# Altium footprint library 数码管.PcbLib: 57 footprints (part 3 of 4)
Each footprint in its own frame and in the unit in brackets; x right, y up, seen from the top. Pads: shape width x height; smd on the part's side, far side on the other; paste and mask are expansions set on the pad; w line width, h text height; cw(c..) or ccw(c..) is an arc to the next point about the centre after c.
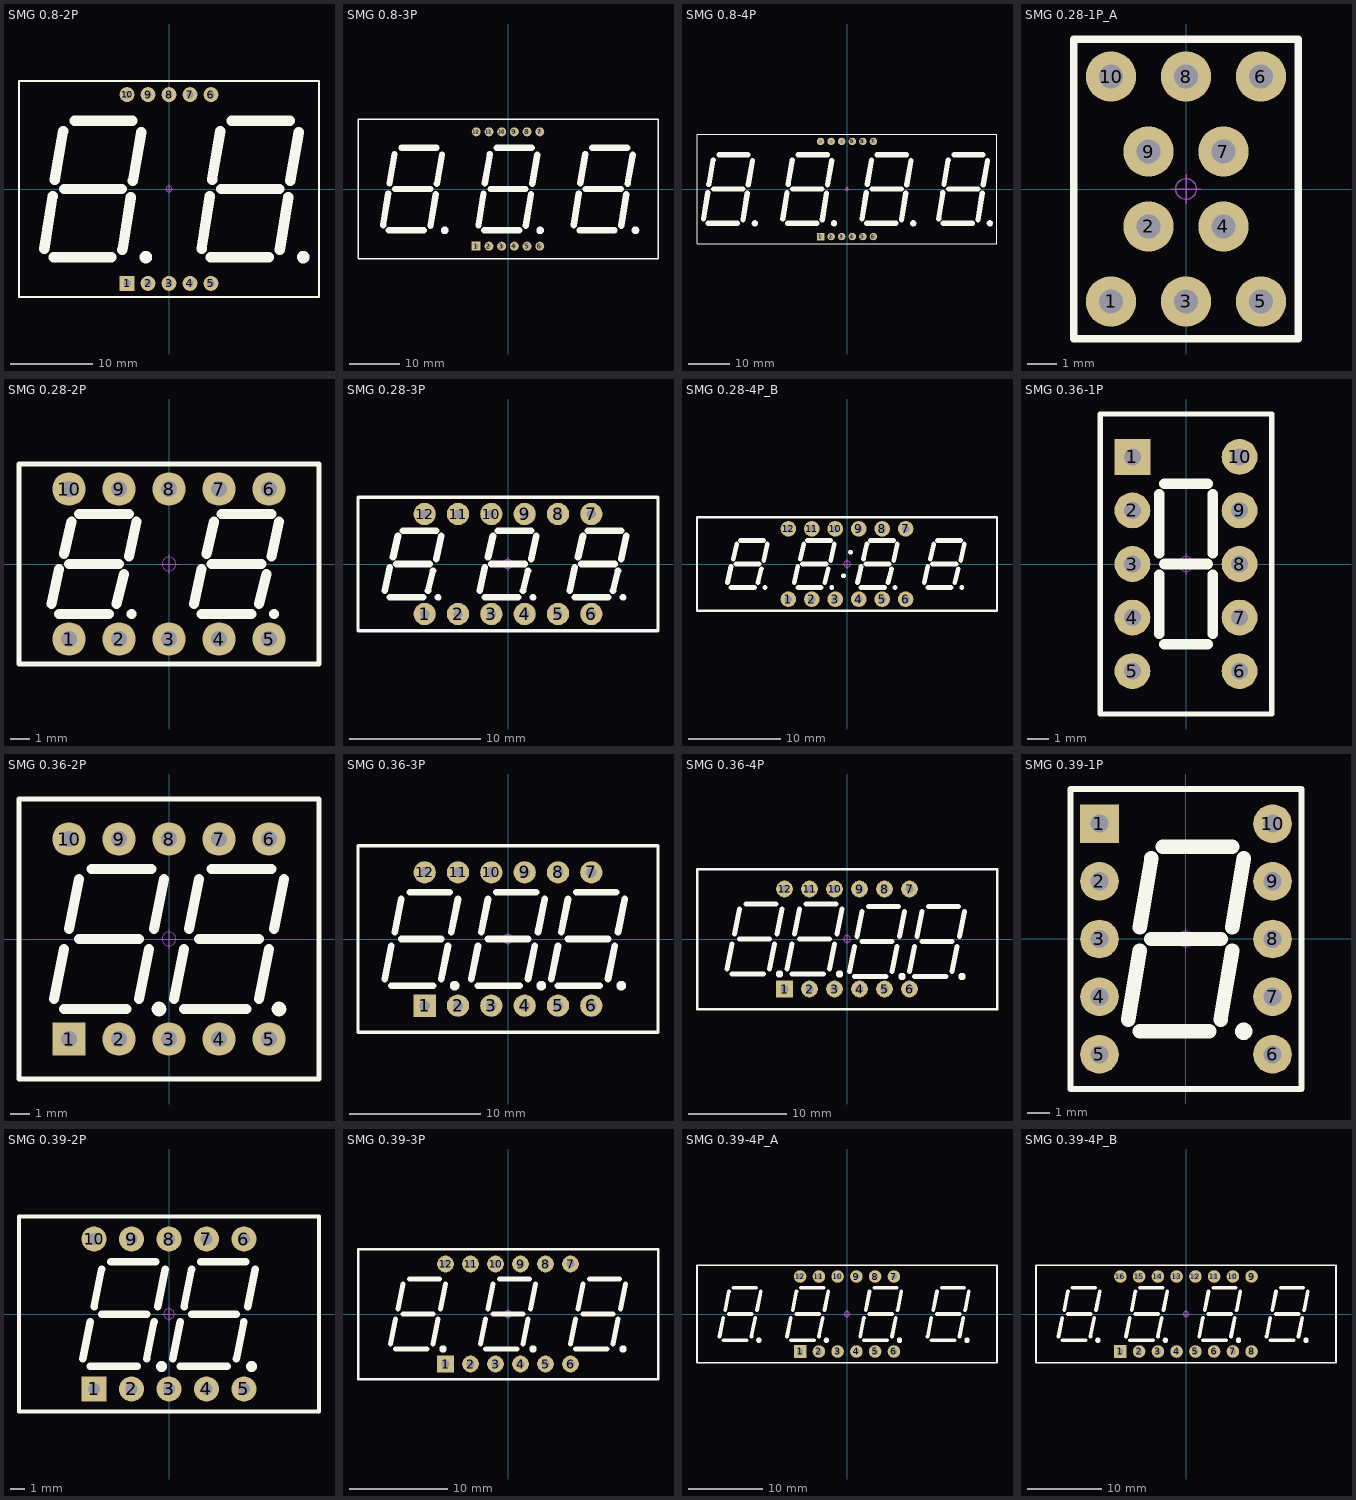
[diagram p2: the footprints below, top view; thin cyan lines are the x and y axes]

## SMG 0.8-2P [mm] "35.8*25.8*10mm(长宽厚)"
pads (10):
  rect 1.8x1.8 hole 0.9: 1(-5.08,-11.43)
  round 1.8 hole 0.9: 2(-2.54,-11.43) 3(0,-11.43) 4(2.54,-11.43) 5(5.08,-11.43) 6(5.08,11.43) 7(2.54,11.43) 8(0,11.43) 9(-2.54,11.43) 10(-5.08,11.43)
Top Overlay:
  circle w0.762: c16.256,-8.255 r0.381
  circle w0.762: c-2.794,-8.255 r0.381
  lines w0.254: -18.161,-13.081 18.161,-13.081 18.161,13.081 -18.161,13.081 -18.161,-13.081
  lines w1.27: -15.113,-7.239 -14.097,-0.889 ; -13.97,-8.255 -6.985,-8.255 ; -13.843,1.143 -12.827,6.985 ; -12.7,0 -5.715,0 ; -11.43,8.255 -4.445,8.255 ; -5.634,-7.366 -4.618,-1.016 ; -4.364,1.016 -3.348,6.858 ; 3.937,-7.239 4.953,-0.889 ; 5.08,-8.255 12.065,-8.255 ; 5.207,1.143 6.223,6.985 ; 6.35,0 13.335,0 ; 7.62,8.255 14.605,8.255 ; 13.416,-7.366 14.432,-1.016 ; 14.686,1.016 15.702,6.858
Mechanical 15:
  circle w0.05: c0,0 r0.35
  lines w0.05: -0.5,0 0.5,0 ; 0,-0.5 0,0.5
3D body "SMG 0.8-2P.STEP": height 10, standoff -3.1, extent -17.9,-12.9 17.9,12.9

## SMG 0.8-3P [mm] "59.2*27.7*10mm(长宽厚)"
pads (12):
  rect 1.8x1.8 hole 0.9: 1(-6.35,-11.43)
  round 1.8 hole 0.9: 2(-3.81,-11.43) 3(-1.27,-11.43) 4(1.27,-11.43) 5(3.81,-11.43) 6(6.35,-11.43) 7(6.35,11.43) 8(3.81,11.43) 9(1.27,11.43) 10(-1.27,11.43) 11(-3.81,11.43) 12(-6.35,11.43)
Top Overlay:
  circle w0.762: c-12.636,-8.255 r0.381
  circle w0.762: c6.413,-8.255 r0.381
  circle w0.762: c25.463,-8.255 r0.381
  lines w0.254: -29.972,-13.97 29.972,-13.97 29.972,13.97 -29.972,13.97 -29.972,-13.97
  lines w1.27: -24.956,-7.239 -23.939,-0.889 ; -23.812,-8.255 -16.828,-8.255 ; -23.685,1.143 -22.669,6.985 ; -22.543,0 -15.557,0 ; -21.273,8.255 -14.287,8.255 ; -15.476,-7.366 -14.46,-1.016 ; -14.206,1.016 -13.19,6.858 ; -5.905,-7.239 -4.889,-0.889 ; -4.763,-8.255 2.222,-8.255 ; -4.635,1.143 -3.619,6.985 ; -3.492,0 3.492,0 ; -2.222,8.255 4.763,8.255 ; 3.574,-7.366 4.59,-1.016 ; 4.844,1.016 5.86,6.858 ; 13.144,-7.239 14.16,-0.889 ; 14.287,-8.255 21.273,-8.255 ; 14.414,1.143 15.43,6.985 ; 15.557,0 22.543,0 ; 16.828,8.255 23.812,8.255 ; 22.624,-7.366 23.64,-1.016 ; 23.894,1.016 24.91,6.858
Mechanical 15:
  circle w0.05: c0,0 r0.35
  lines w0.05: -0.5,0 0.5,0 ; 0,-0.5 0,0.5
3D body "SMG 0.8-3P.STEP": height 10, standoff -3.1, extent -29.65,-13.85 29.65,13.85

## SMG 0.8-4P [mm] "59.2*27.7*10mm(长宽厚)"
pads (12):
  rect 1.8x1.8 hole 0.9: 1(-6.35,-11.43)
  round 1.8 hole 0.9: 2(-3.81,-11.43) 3(-1.27,-11.43) 4(1.27,-11.43) 5(3.81,-11.43) 6(6.35,-11.43) 7(6.35,11.43) 8(3.81,11.43) 9(1.27,11.43) 10(-1.27,11.43) 11(-3.81,11.43) 12(-6.35,11.43)
Top Overlay:
  circle w0.762: c34.353,-8.255 r0.381
  circle w0.762: c-22.162,-8.255 r0.381
  circle w0.762: c-3.111,-8.255 r0.381
  circle w0.762: c15.938,-8.255 r0.381
  lines w0.254: -36.068,-13.208 -36.068,13.208 36.068,13.208 36.068,-13.208 -36.068,-13.208
  lines w1.27: -34.48,-7.239 -33.465,-0.889 ; -33.337,-8.255 -26.352,-8.255 ; -33.21,1.143 -32.194,6.985 ; -32.067,0 -25.082,0 ; -30.797,8.255 -23.812,8.255 ; -25.001,-7.366 -23.985,-1.016 ; -23.731,1.016 -22.715,6.858 ; -15.43,-7.239 -14.414,-0.889 ; -14.287,-8.255 -7.302,-8.255 ; -14.16,1.143 -13.144,6.985 ; -13.018,0 -6.032,0 ; -11.747,8.255 -4.763,8.255 ; -5.951,-7.366 -4.935,-1.016 ; -4.681,1.016 -3.665,6.858 ; 3.619,-7.239 4.635,-0.889 ; 4.763,-8.255 11.747,-8.255 ; 4.889,1.143 5.905,6.985 ; 6.032,0 13.018,0 ; 7.302,8.255 14.287,8.255 ; 13.099,-7.366 14.115,-1.016 ; 14.369,1.016 15.385,6.858 ; 22.034,-7.239 23.05,-0.889 ; 23.177,-8.255 30.162,-8.255 ; 23.304,1.143 24.32,6.985 ; 24.447,0 31.432,0 ; 25.717,8.255 32.703,8.255 ; 31.514,-7.366 32.53,-1.016 ; 32.784,1.016 33.8,6.858
Mechanical 15:
  circle w0.05: c0,0 r0.35
  lines w0.05: -0.5,0 0.5,0 ; 0,-0.5 0,0.5
3D body "SMG 0.8-4P.STEP": height 10, standoff -3.1, extent -35.8,-13 35.8,13

## SMG 0.28-1P_A [mm] "7.4*10*6mm(长宽高)"
pads (10):
  round 1.7 hole 0.8: 1(-2.54,-3.81) 2(-1.27,-1.27) 3(0,-3.81) 4(1.27,-1.27) 5(2.54,-3.81) 6(2.54,3.81) 7(1.27,1.27) 8(0,3.81) 9(-1.27,1.27) 10(-2.54,3.81)
Top Overlay:
  lines w0.254: -3.81,-5.08 3.81,-5.08 3.81,5.08 -3.81,5.08 -3.81,-5.08
Mechanical 15:
  circle w0.05: c0,0 r0.35
  lines w0.05: -0.5,0 0.5,0 ; 0,-0.5 0,0.5
3D body "SMG 0.28-1P.STEP": height 6, standoff -3.6, extent -3.7,-5 3.7,5

## SMG 0.28-2P [mm] "15*10*6mm(长宽厚)"
pads (10):
  round 1.7 hole 0.8: 1(-5.08,-3.81) 2(-2.54,-3.81) 3(0,-3.81) 4(2.54,-3.81) 5(5.08,-3.81) 6(5.08,3.81) 7(2.54,3.81) 8(0,3.81) 9(-2.54,3.81) 10(-5.08,3.81)
Top Overlay:
  circle w0.254: c-1.905,-2.54 r0.127
  circle w0.254: c5.334,-2.54 r0.127
  lines w0.254: -7.62,-5.08 7.62,-5.08 7.62,5.08 -7.62,5.08 -7.62,-5.08
  lines w0.508: -5.969,-2.032 -5.588,-0.254 ; -5.588,-2.54 -3.048,-2.54 ; -5.334,0.508 -4.953,2.159 ; -5.08,0 -2.54,0 ; -4.572,2.54 -2.032,2.54 ; -2.667,-2.032 -2.286,-0.508 ; -2.032,0.381 -1.651,2.159 ; 1.27,-2.032 1.651,-0.254 ; 1.651,-2.54 4.191,-2.54 ; 1.905,0.508 2.286,2.159 ; 2.159,0 4.699,0 ; 2.667,2.54 5.207,2.54 ; 4.572,-2.032 4.953,-0.508 ; 5.207,0.381 5.588,2.159
Mechanical 15:
  circle w0.05: c0,0 r0.35
  lines w0.05: -0.5,0 0.5,0 ; 0,-0.5 0,0.5
3D body "SMG 0.28-2P.STEP": height 6, standoff -3.6, extent -7.5,-5 7.5,5

## SMG 0.28-3P [mm] "22.58*10*6mm(长宽厚)"
pads (12):
  round 1.7 hole 0.7: 1(-6.35,-3.81) 2(-3.81,-3.81) 3(-1.27,-3.81) 4(1.27,-3.81) 5(3.81,-3.81) 6(6.35,-3.81) 7(6.35,3.81) 8(3.81,3.81) 9(1.27,3.81) 10(-1.27,3.81) 11(-3.81,3.81) 12(-6.35,3.81)
Top Overlay:
  circle w0.254: c-5.334,-2.54 r0.127
  circle w0.254: c1.905,-2.54 r0.127
  circle w0.254: c8.763,-2.54 r0.127
  lines w0.254: -11.43,-5.08 11.43,-5.08 11.43,5.08 -11.43,5.08 -11.43,-5.08
  lines w0.508: -9.398,-2.032 -9.017,-0.254 ; -9.017,-2.54 -6.477,-2.54 ; -8.763,0.508 -8.382,2.159 ; -8.509,0 -5.969,0 ; -8.001,2.54 -5.461,2.54 ; -6.096,-2.032 -5.715,-0.508 ; -5.461,0.381 -5.08,2.159 ; -2.159,-2.032 -1.778,-0.254 ; -1.778,-2.54 0.762,-2.54 ; -1.524,0.508 -1.143,2.159 ; -1.27,0 1.27,0 ; -0.762,2.54 1.778,2.54 ; 1.143,-2.032 1.524,-0.508 ; 1.778,0.381 2.159,2.159 ; 4.699,-2.032 5.08,-0.254 ; 5.08,-2.54 7.62,-2.54 ; 5.334,0.508 5.715,2.159 ; 5.588,0 8.128,0 ; 6.096,2.54 8.636,2.54 ; 8.001,-2.032 8.382,-0.508 ; 8.636,0.381 9.017,2.159
Mechanical 15:
  circle w0.05: c0,0 r0.35
  lines w0.05: -0.5,0 0.5,0 ; 0,-0.5 0,0.5
3D body "SMG 0.28-3P.STEP": height 6, standoff -3.6, extent -11.265,-5 11.265,5

## SMG 0.28-4P_B [mm] "32.2*10*6mm(长宽厚)"
pads (12):
  round 1.7 hole 0.8: 1(-6.35,-3.81) 2(-3.81,-3.81) 3(-1.27,-3.81) 4(1.27,-3.81) 5(3.81,-3.81) 6(6.35,-3.81) 7(6.35,3.81) 8(3.81,3.81) 9(1.27,3.81) 10(-1.27,3.81) 11(-3.81,3.81) 12(-6.35,3.81)
Top Overlay:
  circle w0.254: c12.446,-2.54 r0.127
  circle w0.254: c5.207,-2.54 r0.127
  circle w0.254: c-1.651,-2.54 r0.127
  circle w0.254: c-8.89,-2.54 r0.127
  circle w0.254: c0.381,1.27 r0.127
  circle w0.254: c-0.381,-1.27 r0.127
  lines w0.254: -16.256,-5.08 16.256,-5.08 16.256,5.08 -16.256,5.08 -16.256,-5.08
  lines w0.508: -12.954,-2.032 -12.573,-0.254 ; -12.573,-2.54 -10.033,-2.54 ; -12.319,0.508 -11.938,2.159 ; -12.065,0 -9.525,0 ; -11.557,2.54 -9.017,2.54 ; -9.652,-2.032 -9.271,-0.508 ; -9.017,0.381 -8.636,2.159 ; -5.715,-2.032 -5.334,-0.254 ; -5.334,-2.54 -2.794,-2.54 ; -5.08,0.508 -4.699,2.159 ; -4.826,0 -2.286,0 ; -4.318,2.54 -1.778,2.54 ; -2.413,-2.032 -2.032,-0.508 ; -1.778,0.381 -1.397,2.159 ; 1.143,-2.032 1.524,-0.254 ; 1.524,-2.54 4.064,-2.54 ; 1.778,0.508 2.159,2.159 ; 2.032,0 4.572,0 ; 2.54,2.54 5.08,2.54 ; 4.445,-2.032 4.826,-0.508 ; 5.08,0.381 5.461,2.159 ; 8.382,-2.032 8.763,-0.254 ; 8.763,-2.54 11.303,-2.54 ; 9.017,0.508 9.398,2.159 ; 9.271,0 11.811,0 ; 9.779,2.54 12.319,2.54 ; 11.684,-2.032 12.065,-0.508 ; 12.319,0.381 12.7,2.159
Mechanical 15:
  circle w0.05: c0,0 r0.35
  lines w0.05: -0.5,0 0.5,0 ; 0,-0.5 0,0.5
3D body "SMG 0.28-4P_B.STEP": height 6, standoff -3.6, extent -16.1,-5 16.1,5

## SMG 0.36-1P [mm] "7.5*14*8.5mm(长宽厚)"
pads (10):
  rect 1.7x1.7 hole 0.8: 1(-2.54,5.08)
  round 1.7 hole 0.8: 2(-2.54,2.54) 3(-2.54,0) 4(-2.54,-2.54) 5(-2.54,-5.08) 6(2.54,-5.08) 7(2.54,-2.54) 8(2.54,0) 9(2.54,2.54) 10(2.54,5.08)
Top Overlay:
  lines w0.254: -4.064,-7.112 -4.064,7.112 4.064,7.112 4.064,-7.112 -4.064,-7.112
  lines w0.508: -1.27,-3.302 -1.27,-0.508 ; -1.27,0.508 -1.27,3.302 ; -1.016,-3.81 1.016,-3.81 ; -1.016,0 1.016,0 ; -1.016,3.81 1.016,3.81 ; 1.27,-3.302 1.27,-0.508 ; 1.27,0.508 1.27,3.302
Mechanical 15:
  circle w0.05: c0,0 r0.35
  lines w0.05: -0.5,0 0.5,0 ; 0,-0.5 0,0.5
3D body "SMG 0.36-1P.STEP": height 8.5, standoff -3.35, extent -3.75,-7 3.75,7

## SMG 0.36-2P [mm] "15*14*7.2mm(长宽厚)"
pads (10):
  rect 1.7x1.7 hole 0.8: 1(-5.08,-5.08)
  round 1.7 hole 0.8: 2(-2.54,-5.08) 3(0,-5.08) 4(2.54,-5.08) 5(5.08,-5.08) 6(5.08,5.08) 7(2.54,5.08) 8(0,5.08) 9(-2.54,5.08) 10(-5.08,5.08)
Top Overlay:
  circle w0.381: c-0.508,-3.556 r0.18
  circle w0.381: c5.588,-3.556 r0.18
  lines w0.254: -7.62,-7.112 7.62,-7.112 7.62,7.112 -7.62,7.112 -7.62,-7.112
  lines w0.508: -5.842,-3.048 -5.334,-0.508 ; -5.334,-3.556 -2.159,-3.556 ; -5.08,0.508 -4.572,3.048 ; -3.937,3.556 -0.889,3.556 ; -1.524,-3.048 -1.016,-0.508 ; -0.762,0.508 -0.254,3.048 ; 0.254,-3.048 0.762,-0.508 ; 0.762,-3.556 3.937,-3.556 ; 1.016,0.508 1.524,3.048 ; 2.159,3.556 5.207,3.556 ; 4.572,-3.048 5.08,-0.508 ; 5.334,0.508 5.842,3.048 ; -4.572,0 -1.524,0 -4.572,0 ; 1.524,0 4.572,0 1.524,0
Mechanical 15:
  circle w0.05: c0,0 r0.35
  lines w0.05: -0.5,0 0.5,0 ; 0,-0.5 0,0.5
3D body "SMG 0.36-2P.STEP": height 7.2, standoff -3.6, extent -7.5,-7 7.5,7

## SMG 0.36-3P [mm] "22.5*14*7.2mm(长宽厚)"
pads (12):
  rect 1.7x1.7 hole 0.8: 1(-6.35,-5.08)
  round 1.7 hole 0.8: 2(-3.81,-5.08) 3(-1.27,-5.08) 4(1.27,-5.08) 5(3.81,-5.08) 6(6.35,-5.08) 7(6.35,5.08) 8(3.81,5.08) 9(1.27,5.08) 10(-1.27,5.08) 11(-3.81,5.08) 12(-6.35,5.08)
Top Overlay:
  circle w0.381: c8.636,-3.556 r0.18
  circle w0.381: c2.54,-3.556 r0.18
  circle w0.381: c-4.064,-3.556 r0.18
  lines w0.254: -11.43,-7.112 11.43,-7.112 11.43,7.112 -11.43,7.112 -11.43,-7.112
  lines w0.508: -9.398,-3.048 -8.89,-0.508 ; -8.89,-3.556 -5.715,-3.556 ; -8.636,0.508 -8.128,3.048 ; -8.128,0 -5.08,0 ; -7.493,3.556 -4.445,3.556 ; -5.08,-3.048 -4.572,-0.508 ; -4.318,0.508 -3.81,3.048 ; -2.794,-3.048 -2.286,-0.508 ; -2.286,-3.556 0.889,-3.556 ; -2.032,0.508 -1.524,3.048 ; -0.889,3.556 2.159,3.556 ; 1.524,-3.048 2.032,-0.508 ; 2.286,0.508 2.794,3.048 ; 3.302,-3.048 3.81,-0.508 ; 3.81,-3.556 6.985,-3.556 ; 4.064,0.508 4.572,3.048 ; 5.207,3.556 8.255,3.556 ; 7.62,-3.048 8.128,-0.508 ; 8.382,0.508 8.89,3.048 ; -1.524,0 1.524,0 -1.524,0 ; 4.572,0 7.62,0 4.572,0
Mechanical 15:
  circle w0.05: c0,0 r0.35
  lines w0.05: -0.5,0 0.5,0 ; 0,-0.5 0,0.5
3D body "SMG 0.36-3P.STEP": height 7.2, standoff -3.6, extent -11.25,-7 11.25,7

## SMG 0.36-4P [mm] "30*14*7.2mm(长宽厚)"
pads (12):
  rect 1.7x1.7 hole 0.8: 1(-6.35,-5.08)
  round 1.7 hole 0.8: 2(-3.81,-5.08) 3(-1.27,-5.08) 4(1.27,-5.08) 5(3.81,-5.08) 6(6.35,-5.08) 7(6.35,5.08) 8(3.81,5.08) 9(1.27,5.08) 10(-1.27,5.08) 11(-3.81,5.08) 12(-6.35,5.08)
Top Overlay:
  circle w0.381: c5.588,-3.81 r0.18
  circle w0.381: c11.684,-3.81 r0.18
  circle w0.381: c-6.858,-3.556 r0.18
  circle w0.381: c-0.762,-3.556 r0.18
  lines w0.254: -15.24,-7.112 -15.24,7.112 15.24,7.112 15.24,-7.112 -15.24,-7.112
  lines w0.508: -12.192,-3.048 -11.684,-0.508 ; -11.684,-3.556 -8.509,-3.556 ; -11.43,0.508 -10.922,3.048 ; -10.287,3.556 -7.239,3.556 ; -7.874,-3.048 -7.366,-0.508 ; -7.112,0.508 -6.604,3.048 ; -6.096,-3.048 -5.588,-0.508 ; -5.588,-3.556 -2.413,-3.556 ; -5.334,0.508 -4.826,3.048 ; -4.191,3.556 -1.143,3.556 ; -1.778,-3.048 -1.27,-0.508 ; -1.016,0.508 -0.508,3.048 ; 0.254,-3.302 0.762,-0.762 ; 0.762,-3.81 3.937,-3.81 ; 1.016,0.254 1.524,2.794 ; 2.159,3.302 5.207,3.302 ; 4.572,-3.302 5.08,-0.762 ; 5.334,0.254 5.842,2.794 ; 6.35,-3.302 6.858,-0.762 ; 6.858,-3.81 10.033,-3.81 ; 7.112,0.254 7.62,2.794 ; 8.255,3.302 11.303,3.302 ; 10.668,-3.302 11.176,-0.762 ; 11.43,0.254 11.938,2.794 ; -10.922,0 -7.874,0 -10.922,0 ; -4.826,0 -1.778,0 -4.826,0 ; 1.524,-0.254 4.572,-0.254 1.524,-0.254 ; 7.62,-0.254 10.668,-0.254 7.62,-0.254
Mechanical 15:
  circle w0.05: c0,0 r0.35
  lines w0.05: -0.5,0 0.5,0 ; 0,-0.5 0,0.5
3D body "SMG 0.36-4P.STEP": height 7.2, standoff -3.6, extent -15,-7 15,7

## SMG 0.39-1P [mm] "10*13*7mm(长宽厚)"
pads (10):
  rect 1.7x1.7 hole 0.8: 1(-3.81,5.08)
  round 1.7 hole 0.8: 2(-3.81,2.54) 3(-3.81,0) 4(-3.81,-2.54) 5(-3.81,-5.08) 6(3.81,-5.08) 7(3.81,-2.54) 8(3.81,0) 9(3.81,2.54) 10(3.81,5.08)
Top Overlay:
  circle w0.508: c2.54,-4.064 r0.127
  lines w0.254: -5.08,-6.604 -5.08,6.604 5.08,6.604 5.08,-6.604 -5.08,-6.604
  lines w0.635: -2.54,-3.556 -2.032,-0.508 ; -2.032,-4.064 1.016,-4.064 ; -2.032,0.508 -1.524,3.556 ; -1.524,0 1.524,0 ; -1.016,4.064 2.032,4.064 ; 1.524,-3.556 2.032,-0.508 ; 2.032,0.508 2.54,3.556
Mechanical 15:
  circle w0.05: c0,0 r0.35
  lines w0.05: -0.5,0 0.5,0 ; 0,-0.5 0,0.5
3D body "SMG 0.39-1P.STEP": height 7, standoff -3.6, extent -5,-6.5 5,6.5

## SMG 0.39-2P [mm] "19.9*13*7mm(长宽厚)"
pads (10):
  rect 1.7x1.7 hole 0.8: 1(-5.08,-5.08)
  round 1.7 hole 0.8: 2(-2.54,-5.08) 3(0,-5.08) 4(2.54,-5.08) 5(5.08,-5.08) 6(5.08,5.08) 7(2.54,5.08) 8(0,5.08) 9(-2.54,5.08) 10(-5.08,5.08)
Top Overlay:
  circle w0.381: c-0.508,-3.556 r0.18
  circle w0.381: c5.588,-3.556 r0.18
  lines w0.254: -10.16,-6.604 10.16,-6.604 10.16,6.604 -10.16,6.604 -10.16,-6.604
  lines w0.508: -5.842,-3.048 -5.334,-0.508 ; -5.334,-3.556 -2.159,-3.556 ; -5.08,0.508 -4.572,3.048 ; -3.937,3.556 -0.889,3.556 ; -1.524,-3.048 -1.016,-0.508 ; -0.762,0.508 -0.254,3.048 ; 0.254,-3.048 0.762,-0.508 ; 0.762,-3.556 3.937,-3.556 ; 1.016,0.508 1.524,3.048 ; 2.159,3.556 5.207,3.556 ; 4.572,-3.048 5.08,-0.508 ; 5.334,0.508 5.842,3.048 ; -4.572,0 -1.524,0 -4.572,0 ; 1.524,0 4.572,0 1.524,0
Mechanical 15:
  circle w0.05: c0,0 r0.35
  lines w0.05: -0.5,0 0.5,0 ; 0,-0.5 0,0.5
3D body "SMG 0.39-2P.STEP": height 7, standoff -3.6, extent -9.95,-6.5 9.95,6.5

## SMG 0.39-3P [mm] "30.2*13*7mm(长宽厚)"
pads (12):
  rect 1.7x1.7 hole 0.8: 1(-6.35,-5.08)
  round 1.7 hole 0.8: 2(-3.81,-5.08) 3(-1.27,-5.08) 4(1.27,-5.08) 5(3.81,-5.08) 6(6.35,-5.08) 7(6.35,5.08) 8(3.81,5.08) 9(1.27,5.08) 10(-1.27,5.08) 11(-3.81,5.08) 12(-6.35,5.08)
Top Overlay:
  circle w0.381: c-6.604,-3.556 r0.18
  circle w0.381: c2.54,-3.556 r0.18
  circle w0.381: c11.684,-3.556 r0.18
  lines w0.254: -15.24,-6.604 -15.24,6.604 15.24,6.604 15.24,-6.604 -15.24,-6.604
  lines w0.508: -11.938,-3.048 -11.43,-0.508 ; -11.43,-3.556 -8.255,-3.556 ; -11.176,0.508 -10.668,3.048 ; -10.668,0 -7.62,0 ; -10.033,3.556 -6.985,3.556 ; -7.62,-3.048 -7.112,-0.508 ; -6.858,0.508 -6.35,3.048 ; -2.794,-3.048 -2.286,-0.508 ; -2.286,-3.556 0.889,-3.556 ; -2.032,0.508 -1.524,3.048 ; -0.889,3.556 2.159,3.556 ; 1.524,-3.048 2.032,-0.508 ; 2.286,0.508 2.794,3.048 ; 6.35,-3.048 6.858,-0.508 ; 6.858,-3.556 10.033,-3.556 ; 7.112,0.508 7.62,3.048 ; 8.255,3.556 11.303,3.556 ; 10.668,-3.048 11.176,-0.508 ; 11.43,0.508 11.938,3.048 ; -1.524,0 1.524,0 -1.524,0 ; 7.62,0 10.668,0 7.62,0
Mechanical 15:
  circle w0.05: c0,0 r0.35
  lines w0.05: -0.5,0 0.5,0 ; 0,-0.5 0,0.5
3D body "SMG 0.39-3P.STEP": height 7, standoff -3.6, extent -15.01,-6.5 15.01,6.5

## SMG 0.39-4P_A [mm] "40.2*13*7mm(长宽厚)"
pads (12):
  rect 1.7x1.7 hole 0.8: 1(-6.35,-5.08)
  round 1.7 hole 0.8: 2(-3.81,-5.08) 3(-1.27,-5.08) 4(1.27,-5.08) 5(3.81,-5.08) 6(6.35,-5.08) 7(6.35,5.08) 8(3.81,5.08) 9(1.27,5.08) 10(-1.27,5.08) 11(-3.81,5.08) 12(-6.35,5.08)
Top Overlay:
  circle w0.381: c-2.794,-3.556 r0.18
  circle w0.381: c-11.938,-3.556 r0.18
  circle w0.381: c16.256,-3.556 r0.18
  circle w0.381: c7.112,-3.556 r0.18
  lines w0.254: -20.32,-6.604 -20.32,6.604 20.32,6.604 20.32,-6.604 -20.32,-6.604
  lines w0.508: -17.272,-3.048 -16.764,-0.508 ; -16.764,-3.556 -13.589,-3.556 ; -16.51,0.508 -16.002,3.048 ; -16.002,0 -12.954,0 ; -15.367,3.556 -12.319,3.556 ; -12.954,-3.048 -12.446,-0.508 ; -12.192,0.508 -11.684,3.048 ; -8.128,-3.048 -7.62,-0.508 ; -7.62,-3.556 -4.445,-3.556 ; -7.366,0.508 -6.858,3.048 ; -6.223,3.556 -3.175,3.556 ; -3.81,-3.048 -3.302,-0.508 ; -3.048,0.508 -2.54,3.048 ; 1.778,-3.048 2.286,-0.508 ; 2.286,-3.556 5.461,-3.556 ; 2.54,0.508 3.048,3.048 ; 3.048,0 6.096,0 ; 3.683,3.556 6.731,3.556 ; 6.096,-3.048 6.604,-0.508 ; 6.858,0.508 7.366,3.048 ; 10.922,-3.048 11.43,-0.508 ; 11.43,-3.556 14.605,-3.556 ; 11.684,0.508 12.192,3.048 ; 12.827,3.556 15.875,3.556 ; 15.24,-3.048 15.748,-0.508 ; 16.002,0.508 16.51,3.048 ; -6.858,0 -3.81,0 -6.858,0 ; 12.192,0 15.24,0 12.192,0
Mechanical 15:
  circle w0.05: c0,0 r0.35
  lines w0.05: -0.5,0 0.5,0 ; 0,-0.5 0,0.5
3D body "SMG 0.39-4P_A.STEP": height 7, standoff -3.6, extent -20.09,-6.5 20.09,6.5

## SMG 0.39-4P_B [mm] "40.2*13*7mm(长宽厚) 时钟型"
pads (16):
  rect 1.7x1.7 hole 0.8: 1(-8.89,-5.08)
  round 1.7 hole 0.8: 2(-6.35,-5.08) 3(-3.81,-5.08) 4(-1.27,-5.08) 5(1.27,-5.08) 6(3.81,-5.08) 7(6.35,-5.08) 8(8.89,-5.08) 9(8.89,5.08) 10(6.35,5.08) 11(3.81,5.08) 12(1.27,5.08) 13(-1.27,5.08) 14(-3.81,5.08) 15(-6.35,5.08) 16(-8.89,5.08)
Top Overlay:
  circle w0.381: c7.112,-3.556 r0.18
  circle w0.381: c16.256,-3.556 r0.18
  circle w0.381: c-11.938,-3.556 r0.18
  circle w0.381: c-2.794,-3.556 r0.18
  lines w0.254: -20.32,-6.604 20.32,-6.604 20.32,6.604 -20.32,6.604 -20.32,-6.604
  lines w0.508: -17.272,-3.048 -16.764,-0.508 ; -16.764,-3.556 -13.589,-3.556 ; -16.51,0.508 -16.002,3.048 ; -16.002,0 -12.954,0 ; -15.367,3.556 -12.319,3.556 ; -12.954,-3.048 -12.446,-0.508 ; -12.192,0.508 -11.684,3.048 ; -8.128,-3.048 -7.62,-0.508 ; -7.62,-3.556 -4.445,-3.556 ; -7.366,0.508 -6.858,3.048 ; -6.223,3.556 -3.175,3.556 ; -3.81,-3.048 -3.302,-0.508 ; -3.048,0.508 -2.54,3.048 ; 1.778,-3.048 2.286,-0.508 ; 2.286,-3.556 5.461,-3.556 ; 2.54,0.508 3.048,3.048 ; 3.048,0 6.096,0 ; 3.683,3.556 6.731,3.556 ; 6.096,-3.048 6.604,-0.508 ; 6.858,0.508 7.366,3.048 ; 10.922,-3.048 11.43,-0.508 ; 11.43,-3.556 14.605,-3.556 ; 11.684,0.508 12.192,3.048 ; 12.827,3.556 15.875,3.556 ; 15.24,-3.048 15.748,-0.508 ; 16.002,0.508 16.51,3.048 ; -6.858,0 -3.81,0 -6.858,0 ; 12.192,0 15.24,0 12.192,0
Mechanical 15:
  circle w0.05: c0,0 r0.35
  lines w0.05: -0.5,0 0.5,0 ; 0,-0.5 0,0.5
3D body "SMG 0.39-4P_B.STEP": height 7, standoff -3.6, extent -20.09,-6.5 20.09,6.5